# Altium footprint library rcl.PCBLIB: 487 footprints (part 29 of 31)
Each footprint in its own frame and in the unit in brackets; x right, y up, seen from the top. Pads: shape width x height; smd on the part's side, far side on the other; paste and mask are expansions set on the pad; w line width, h text height; cw(c..) or ccw(c..) is an arc to the next point about the centre after c.
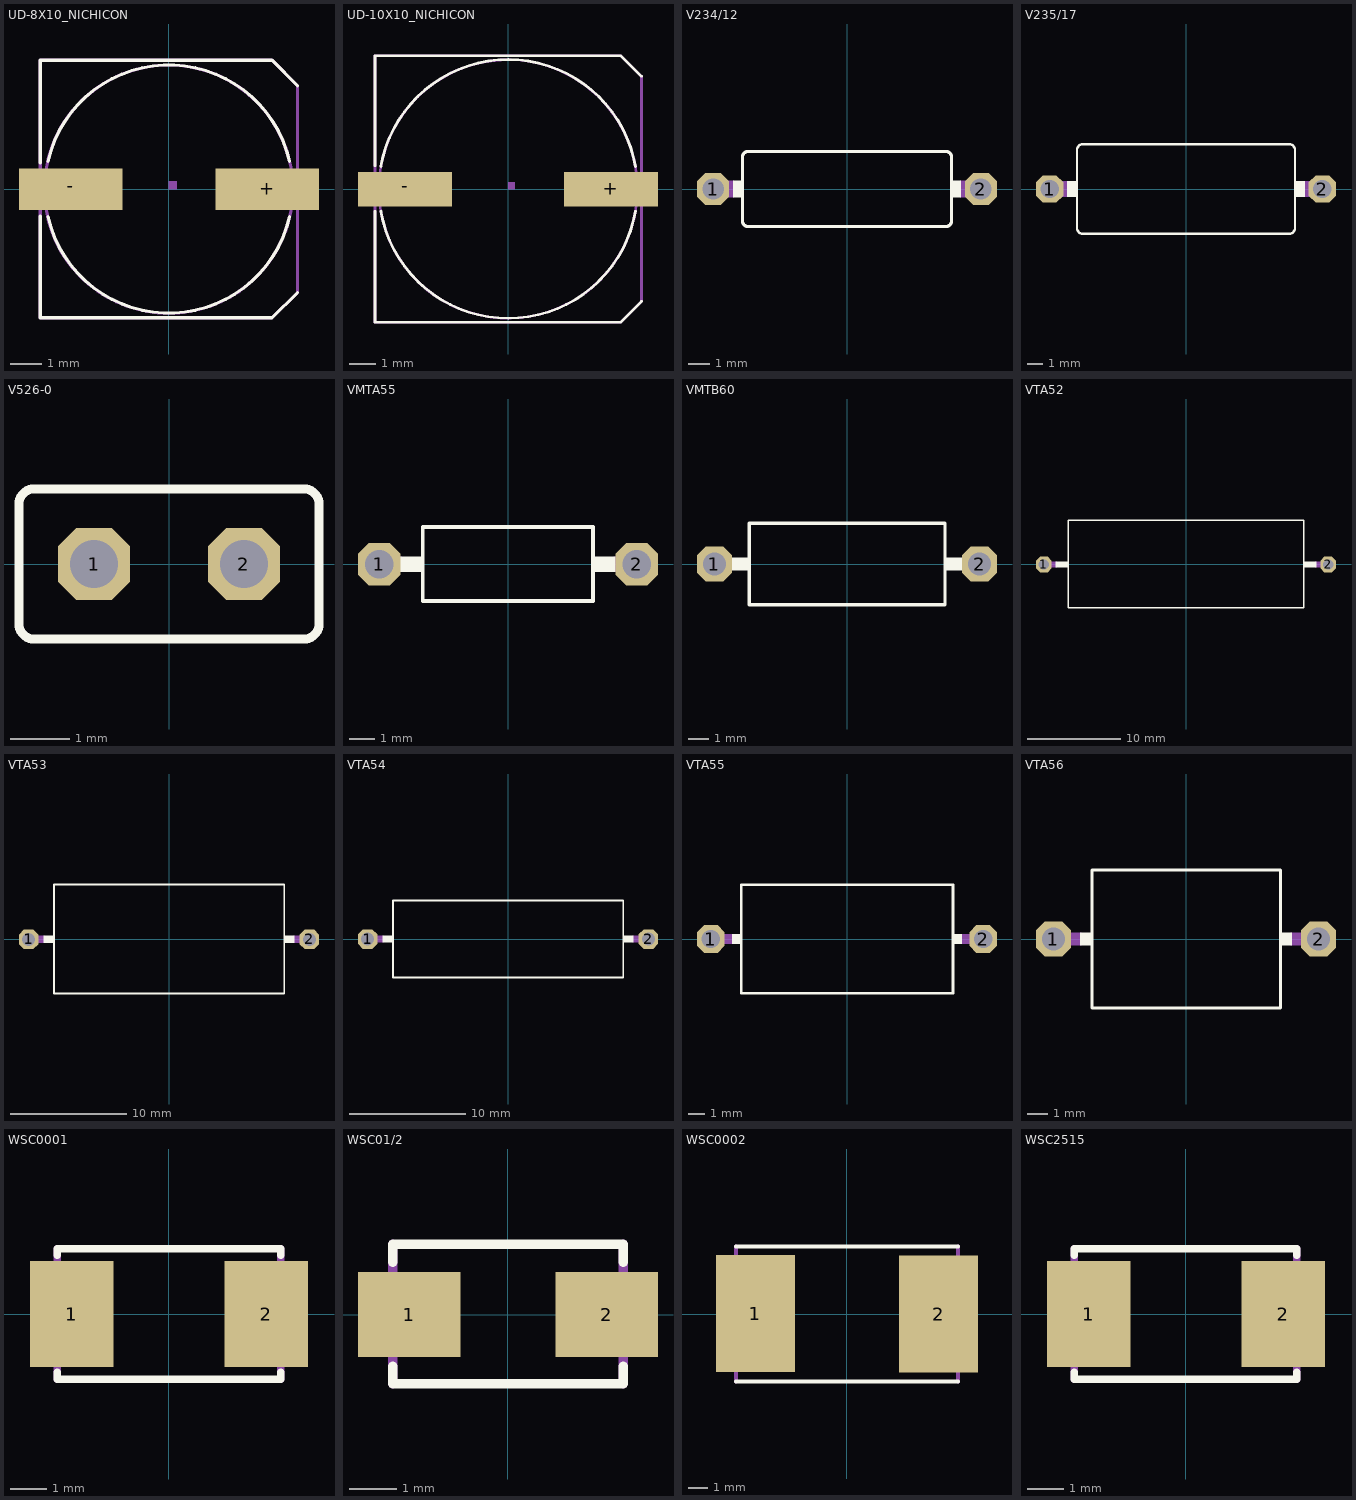
[diagram p28: the footprints below, top view; thin cyan lines are the x and y axes]

## UD-8X10_NICHICON [mil]
pads (2):
  rect 130x52 smd: +(124,0) -(-123.03,0)
Top Overlay:
  lines w4: -161.42,-33.46 -161.42,-161.42 130,-161.42 162,-129.92 ; -161.42,33 -161.42,162 130,162 162,130 ; -151.57,-34.45 ccw(c0.21,-0.05) 152,-34.45 ; -151.57,35 cw(c0.21,0.6) 152,35
Mechanical 16:
  circle w4: c0,0 r156
  region: 0,0 10,0 10,10 0,10
  lines w4: -161.42,-161.42 130,-161.42 162,-129.92 162,130 130,162 -161.42,162 -161.42,-161.42

## UD-10X10_NICHICON [mil]
pads (2):
  rect 142x52 smd: +(155,0) -(-155.51,0)
Top Overlay:
  lines w4: -200.79,-33.46 -200.79,-200.79 170,-200.79 201,-169.29 ; -200.79,35 -200.79,201 170,201 201,170 ; -191.93,-33.46 ccw(c0.04,-0.06) 192,-33.46 ; -191.93,34 cw(c0.04,0.6) 192,34
Mechanical 16:
  circle w4: c0,0 r195
  region: 0,0 10,0 10,10 0,10
  lines w4: -200.79,-200.79 170,-200.79 201,-169.29 201,170 170,201 -200.79,201 -200.79,-200.79

## V234/12 [mil]
pads (2):
  oct 60x60 hole 40: 1(-250,0) 2(250,0)
Top Overlay:
  rectangle: 195,-16 213,16
  rectangle: -213,-16 -195,16
  lines w6: -195,-60 ccw(c-185,-60) -185,-70 185,-70 ccw(c185,-60) 195,-60 195,60 ccw(c185,60) 185,70 -185,70 ccw(c-185,60) -195,60 -195,-60
Mechanical 16:
  lines w32: -250,0 -215,0 ; 215,0 250,0

## V235/17 [mil]
pads (2):
  oct 70.5x70.5 hole 47: 1(-350,0) 2(350,0)
Top Overlay:
  rectangle: 280,-20 305,20
  rectangle: -305,-20 -280,20
  lines w6: -280,-100 -280,100 cw(c-265,100) -265,115 265,115 cw(c265,100) 280,100 280,-100 cw(c265,-100) 265,-115 -265,-115 cw(c-265,-100) -280,-100
Mechanical 16:
  lines w40: -350,0 -310,0 ; 310,0 350,0

## V526-0 [mil]
pads (2):
  oct 48x48 hole 32: 1(-50,0) 2(50,0)
Top Overlay:
  lines w6: -100,-40 ccw(c-90,-40) -90,-50 90,-50 ccw(c90,-40) 100,-40 100,40 ccw(c90,40) 90,50 -90,50 ccw(c-90,40) -100,40 -100,-40

## VMTA55 [mil]
pads (2):
  oct 66x66 hole 44: 1(-200,0) 2(200,0)
Top Overlay:
  rectangle: -167.72,-12 -130.22,12
  rectangle: 130,-12 167,12
  lines w6: -132.38,-57.09 -132.38,58 132,58 132,-57.09 -132.38,-57.09
Mechanical 16:
  lines w24: -200,0 -167.72,0 ; 167,0 200,0

## VMTB60 [mil]
pads (2):
  oct 66x66 hole 44: 1(-250,0) 2(250,0)
Top Overlay:
  rectangle: -219.88,-12 -182.38,12
  rectangle: 183,-12 220,12
  lines w6: -184.55,-76.77 -184.55,77 185,77 185,-76.77 -184.55,-76.77
Mechanical 16:
  lines w24: -250,0 -219.88,0 ; 220,0 250,0

## VTA52 [mil]
pads (2):
  oct 66x66 hole 44: 1(-600,0) 2(600,0)
Top Overlay:
  rectangle: -550,-12 -494.78,12
  rectangle: 495,-12 550,12
  lines w6: -496.95,-183.07 -496.95,1 -496.95,187 497,187 497,1 497,-183.07 -496.95,-183.07
Mechanical 16:
  lines w24: -600,0 -550,0 ; 550,0 600,0

## VTA53 [mil]
pads (2):
  oct 66x66 hole 44: 1(-475,0) 2(475,0)
Top Overlay:
  rectangle: -425,-12 -387.5,12
  rectangle: 388,-12 425,12
  lines w6: -389.67,-184.06 -389.67,0 -389.67,186 390,186 390,0 390,-184.06 -389.67,-184.06
Mechanical 16:
  lines w24: -475,0 -425,0 ; 425,0 475,0

## VTA54 [mil]
pads (2):
  oct 66x66 hole 44: 1(-475,0) 2(475,0)
Top Overlay:
  rectangle: -425,-12 -387.5,12
  rectangle: 388,-12 425,12
  lines w6: -389.67,-129.92 -389.67,0 -389.67,130 390,130 390,0 390,-129.92 -389.67,-129.92
Mechanical 16:
  lines w24: -475,0 -425,0 ; 425,0 475,0

## VTA55 [mil]
pads (2):
  oct 66x66 hole 44: 1(-325,0) 2(325,0)
Top Overlay:
  rectangle: -275,-12 -250,12
  rectangle: 250,-12 275,12
  lines w6: -252.17,-129.92 -252.17,0 -252.17,130 253,130 253,0 253,-129.92 -252.17,-129.92
Mechanical 16:
  lines w24: -325,0 -275,0 ; 275,0 325,0

## VTA56 [mil]
pads (2):
  oct 66x66 hole 44: 1(-250,0) 2(250,0)
Top Overlay:
  rectangle: -200,-12 -175,12
  rectangle: 175,-12 200,12
  lines w6: -177.17,-129.92 -177.17,0 -177.17,130 178,130 178,0 178,-129.92 -177.17,-129.92
Mechanical 16:
  lines w24: -250,0 -200,0 ; 200,0 250,0

## WSC0001 [mil]
pads (2):
  rect 91x115 smd: 1(-105.31,0) 2(106,0)
Top Overlay:
  lines w8: -121.06,-63.23 -121.06,-70.87 122,-70.87 122,-63.23 ; -121.06,64 -121.06,71 122,71 122,64
Mechanical 16:
  lines w8: -121.06,-70.87 -121.06,71 ; 122,-70.87 122,71

## WSC01/2 [mil]
pads (2):
  rect 86x71 smd: 1(-82.68,0) 2(83,0)
Top Overlay:
  lines w8: -96.46,-43.54 -96.46,-58.07 97,-58.07 97,-43.54 ; -96.46,44 -96.46,59 97,59 97,44
Mechanical 16:
  lines w8: -96.46,-58.07 -96.46,59 ; 97,-58.07 97,59

## WSC0002 [mil]
pads (2):
  rect 156x230 smd: 1(-180.12,1) 2(181,0)
Top Overlay:
  lines w8: -218.5,-132.87 219,-132.87 ; -218.5,133 219,133
Mechanical 16:
  lines w8: -218.5,-132.87 -218.5,133 ; 219,-132.87 219,133

## WSC2515 [mil]
pads (2):
  rect 91x115 smd: 1(-105.31,0) 2(106,0)
Top Overlay:
  lines w8: -121.06,-63.23 -121.06,-70.87 121,-70.87 121,-63.23 ; -121.06,64 -121.06,71 121,71 121,64
Mechanical 16:
  lines w8: -121.06,-70.87 -121.06,71 ; 121,-70.87 121,71